# EAGLE library part NRF24L01_MODULE (library SW_Communications)
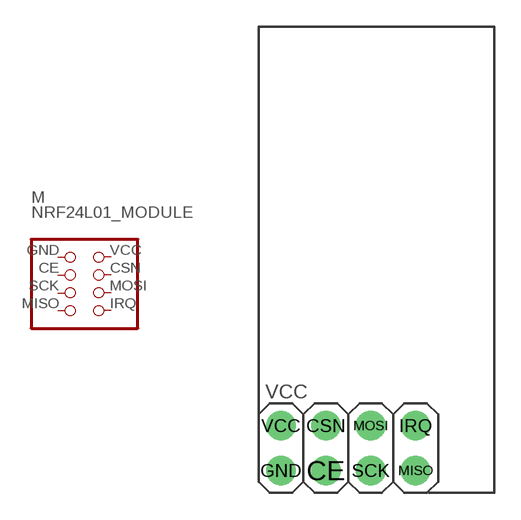
[diagram p0: symbol with the pads of 2X04; footprint 2X04]

Designator prefix M

## NRF24L01_MODULE (CATEGORY: Communications; DESCRIPTION: Single chip radio transceiver for the world wide 2.4 - 2.5 GHz ISM band. The transceiver consists of a fully integrated frequency synthesizer, a power amplifier, a crystal oscillator, a demodulator, modulator and Enhanced ShockBurst™ protocol engine.; MFGS: Nordic Semiconductor; MPNS: nRF24L01+ Module; PACKAGE: Module; PART_NUMBER: nRF24L01+ Module; SW_PART_NUMBER: SW0000859)  [2X04]
CE  CE  pas
CSN  CSN  pas
GND  GND  pas
IRQ  IRQ  pas
MISO  MISO  pas
MOSI  MOSI  pas
SCK  SCK  pas
VCC  VCC  pas

## Footprint 2X04 (pad centres in mm)
PIN HEADER
drill 1.016 pad 1.676: CE -1.27,-1.27; CSN -1.27,1.27; GND -3.81,-1.27; IRQ 3.81,1.27; MISO 3.81,-1.27; MOSI 1.27,1.27; SCK 1.27,-1.27; VCC -3.81,1.27